# EAGLE library part OBDII (library comma.ai)
OBDII connector footprint
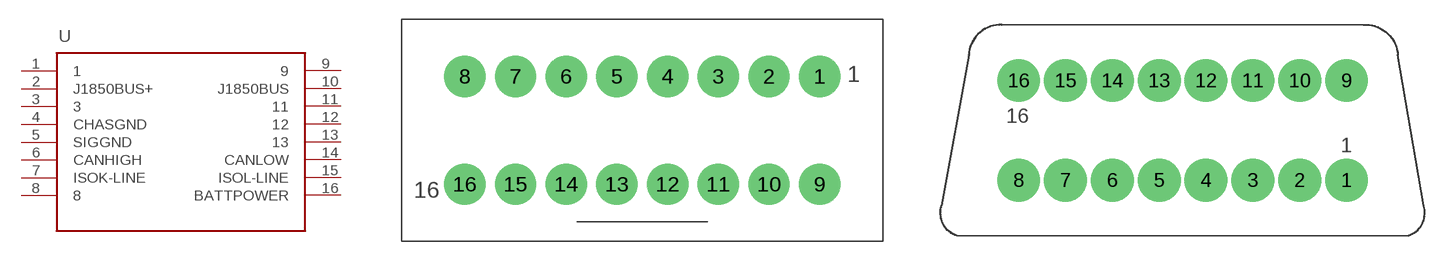
[diagram p20: symbol with the pads of OBDII; footprints OBDII, OBDII-FEMALE]

Designator prefix -

## OBDIIMALE  [OBDII]
1  1
2  J1850BUS+
3  3
4  CHASGND
5  SIGGND
6  CANHIGH
7  ISOK-LINE
8  8
9  9
10  J1850BUS
11  11
12  12
13  13
14  CANLOW
15  ISOL-LINE
16  BATTPOWER

## OBDIIFEMALE  [OBDII-FEMALE]
Pads as for OBDII

## Footprint OBDII (pad centres in mm)
OBDII Connector footprint, for your late model automotive needs
drill 2.2: 1 13.825,4.2; 2 9.875,4.2; 3 5.925,4.2; 4 1.975,4.2; 5 -1.975,4.2; 6 -5.925,4.2; 7 -9.875,4.2; 8 -13.825,4.2; 9 13.825,-4.2; 10 9.875,-4.2; 11 5.925,-4.2; 12 1.975,-4.2; 13 -1.975,-4.2; 14 -5.925,-4.2; 15 -9.875,-4.2; 16 -13.825,-4.2

## Footprint OBDII-FEMALE (pad centres in mm)
OBDII Connector footprint, for your late model automotive needs
drill 2.6 pad 3.4: 1 13.825,-4.2; 2 9.875,-4.2; 3 5.925,-4.2; 4 1.975,-4.2; 5 -1.975,-4.2; 6 -5.925,-4.2; 7 -9.875,-4.2; 8 -13.825,-4.2; 9 13.825,4.2; 10 9.875,4.2; 11 5.925,4.2; 12 1.975,4.2; 13 -1.975,4.2; 14 -5.925,4.2; 15 -9.875,4.2; 16 -13.825,4.2